# Altium footprint library Mechanics.PcbLib: 10 footprints
Each footprint in its own frame and in the unit in brackets; x right, y up, seen from the top. Pads: shape width x height; smd on the part's side, far side on the other; paste and mask are expansions set on the pad; w line width, h text height; cw(c..) or ccw(c..) is an arc to the next point about the centre after c.
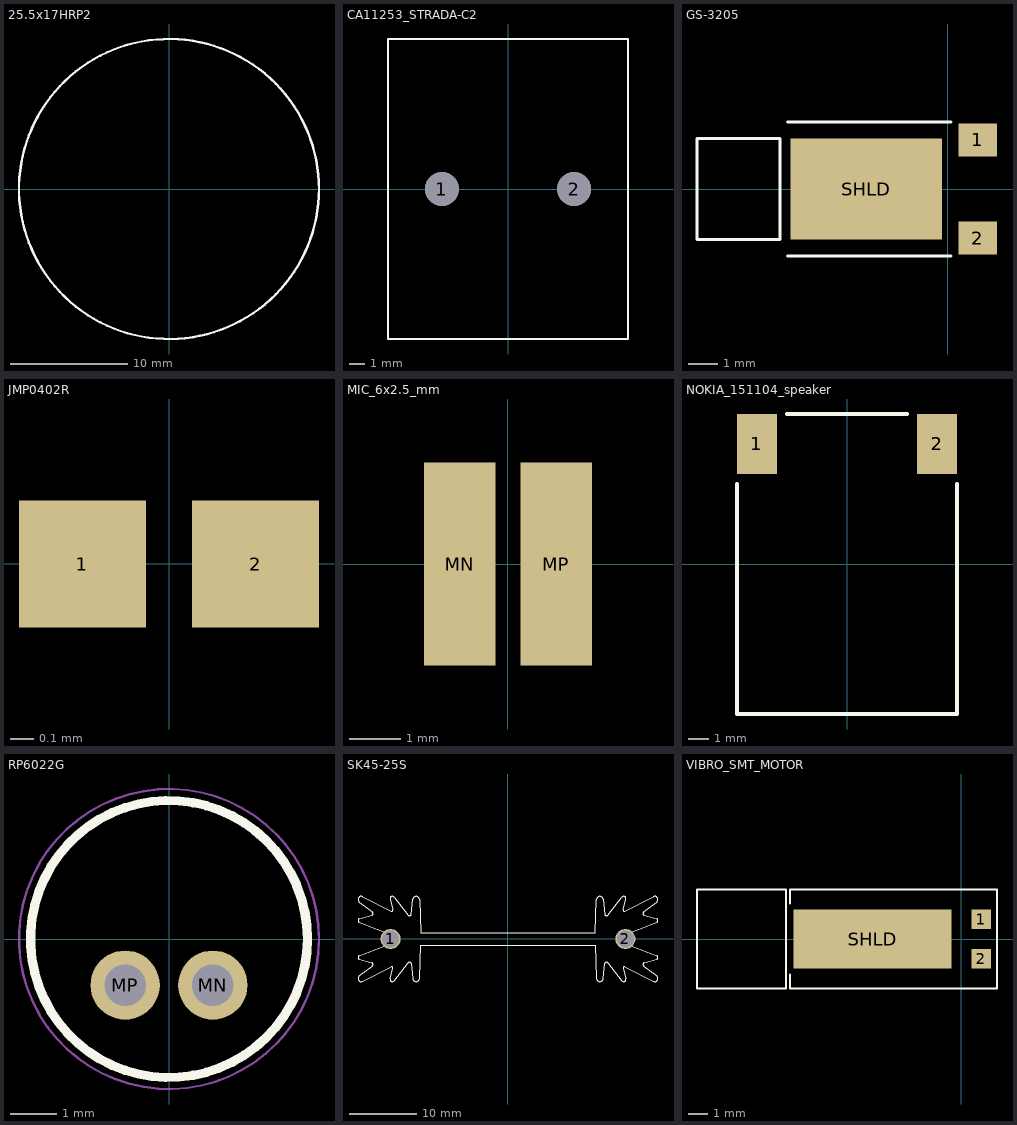
[diagram p0: the footprints below, top view; thin cyan lines are the x and y axes]

## 25.5x17HRP2 [mm]
Top Overlay:
  circle w0.2: c0,0 r12.8
3D body "25.5x17HRP2.STEP": height 30, standoff 13, extent -12.8,-12.8 12.8,12.8

## CA11253_STRADA-C2 [mm]
pads (2):
  round 2.2 hole 2.2 unplated: 1(-4.3,0) 2(4.3,0)
Top Overlay:
  lines w0.15: -7.8,-9.75 7.8,-9.75 7.8,9.75 -7.8,9.75 -7.8,-9.75
3D body "20100108_ol_CA11253_Strada-C2-tape_mechModel.stp": height 5.87, standoff -1.03, extent -7.757,-9.807 7.757,9.807

## GS-3205 [mm]
pads (3):
  rect 1.3x1.1 smd: 1(1,1.65) 2(1,-1.65)
  rect 5.1x3.4 smd: SHLD(-2.75,0)
Top Overlay:
  lines w0.1: -5.4,-2.253 0.1,-2.253 ; -5.4,2.25 0.1,2.25 ; -8.45,-1.7 -8.45,1.7 -5.65,1.7 -5.65,-1.7 -8.45,-1.7
3D body: height 3.6, standoff 0, extent -5.1,-2.25 1.65,2.25
3D body: height 4.2, standoff 0.8, extent -8.45,-1.7 -5.65,1.7

## JMP0402R [mm] "resistor 0402 reflow soldering"
pads (2):
  rect 0.55x0.55 smd: 1(-0.375,0) 2(0.375,0)
3D body "User Library-CR1005-0402.step": height 0.36, standoff 0.01, extent -0.5,-0.25 0.5,0.25

## KTSC-22I [mm]
3D body "KTSC-22I.STEP": height 11.9, standoff 4, extent -6.5,-6.5 6.5,6.5

## MIC_6x2.5_mm [mm]
pads (2):
  rect 1.4x4 smd paste-1000 mask+0: MN(-0.95,0) MP(0.95,0)
3D body "Speak_PUI_Audio_Inc_POM-2738P-R_eec.STEP": height 2.61, standoff -3.39, extent -3,-5.4 3,0.32

## NOKIA_151104_speaker [mm]
pads (2):
  rect 2x3 smd mask+0.102: 1(-4.5,6) 2(4.5,6)
Top Overlay:
  lines w0.22: -5.5,4 -5.5,-7.5 5.5,-7.5 5.5,4 ; -3,7.5 3,7.5
3D body: height 4, standoff 0, extent -5.5,-7.5 5.5,7.5

## RP6022G [mm] "Microphone"
height 2.2
pads (2):
  round 1.5 hole 0.9 mask+0.1: MN(0.95,-1) MP(-0.95,-1)
Top Overlay:
  circle w0.2: c0,0 r3
Mechanical 15:
  circle w0.05: c0,0 r3.25
3D body "RP6022G.STEP": height 2.4, standoff -1.7, extent -3,-3 3,3

## SK45-25S [mm]
pads (2):
  round 3 hole 2.5: 1(-17.5,0) 2(17.5,0)
Top Overlay:
  lines w0.15: -18.177,-0.928 cw(c-17.497,0) -18.177,0.927 ; 18.183,-0.928 ccw(c17.503,0) 18.183,0.927 ; -22.166,-2.495 ccw(c-22.061,-2.761) -22.133,-3.038 -20.33,-3.508 cw(c-20.405,-3.795) -20.226,-4.031 -22.16,-5.501 ccw(c-21.874,-5.877) -21.66,-6.299 -17.41,-4.142 cw(c-17.331,-4.299) -17.161,-4.342 -17.567,-5.917 ccw(c-17.232,-6.004) -16.96,-6.219 -14.831,-3.533 cw(c-14.66,-3.669) -14.443,-3.644 -14.182,-5.899 ccw(c-13.676,-5.841) -13.167,-5.858 -12.997,-0.9 13.003,-0.9 13.173,-5.858 ccw(c13.682,-5.841) 14.188,-5.899 14.449,-3.644 cw(c14.666,-3.669) 14.837,-3.533 16.966,-6.219 ccw(c17.238,-6.004) 17.573,-5.917 17.167,-4.342 cw(c17.336,-4.299) 17.416,-4.142 21.666,-6.299 ccw(c21.88,-5.877) 22.166,-5.501 20.231,-4.031 cw(c20.411,-3.795) 20.336,-3.508 22.139,-3.038 ccw(c22.067,-2.761) 22.171,-2.495 18.127,-0.906 cw(c17.503,0) 18.127,0.905 22.171,2.494 ccw(c22.067,2.76) 22.139,3.037 20.336,3.507 cw(c20.411,3.795) 20.231,4.031 22.166,5.5 ccw(c21.88,5.877) 21.666,6.299 17.416,4.142 cw(c17.336,4.298) 17.167,4.342 17.573,5.917 ccw(c17.238,6.003) 16.966,6.219 14.837,3.533 cw(c14.666,3.668) 14.449,3.643 14.188,5.899 ccw(c13.682,5.841) 13.173,5.858 13.003,0.9 -12.997,0.9 -13.167,5.858 ccw(c-13.676,5.841) -14.182,5.899 -14.443,3.643 cw(c-14.66,3.668) -14.831,3.533 -16.96,6.219 ccw(c-17.232,6.003) -17.567,5.917 -17.161,4.342 cw(c-17.331,4.298) -17.41,4.142 -21.66,6.299 ccw(c-21.874,5.877) -22.16,5.5 -20.226,4.031 cw(c-20.405,3.795) -20.33,3.507 -22.133,3.037 ccw(c-22.061,2.76) -22.166,2.494 -18.121,0.905 cw(c-17.497,0) -18.121,-0.906 -22.166,-2.495
3D body "SK45-25S.STEP": height 25.41, standoff -3.49, extent -22.35,-6.35 22.349,6.349

## VIBRO_SMT_MOTOR [mm]
pads (3):
  rect 1x1 smd: 1(1,1) 2(1,-1)
  rect 8x3 smd: SHLD(-4.5,0)
Top Overlay:
  lines w0.1: -8.7,-1.8 -8.7,-2.5 1.8,-2.5 1.8,2.5 -8.7,2.5 -8.7,1.8 ; -13.4,-2.5 -13.4,2.5 -8.9,2.5 -8.9,-2.5 -13.4,-2.5
3D body: height 5, standoff 0, extent -8.7,-2.5 1.8,2.5
3D body: height 5, standoff 0, extent -13.4,-2.5 -8.9,2.5